# EAGLE library part 310030346_ETA2359 (library Seeed-OPL-2017-01-IC-Akita)
ETA;ETA2359, SMD IC PMIC;SOT23-6, SKU: 310030346
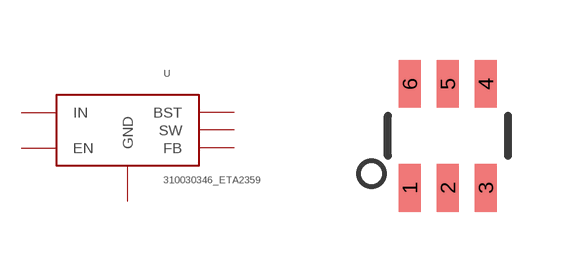
[diagram p5: symbol with the pads of SOT236; footprint SOT236]

Designator prefix -

## 310030346_ETA2359  [SOT236]
1  BST
2  GND
3  FB
4  EN
5  IN
6  SW

## Footprint SOT236 (pad centres in mm)
SOT236
smd 0.55 x 1.2: 1 -0.95,-1.3; 2 0,-1.3; 3 0.95,-1.3; 4 0.95,1.3; 5 0,1.3; 6 -0.95,1.3